# Altium schematic symbol library bspd parts.SchLib: 61 symbols
Pins are listed as number, name and electrical type; pins without a type are passive.

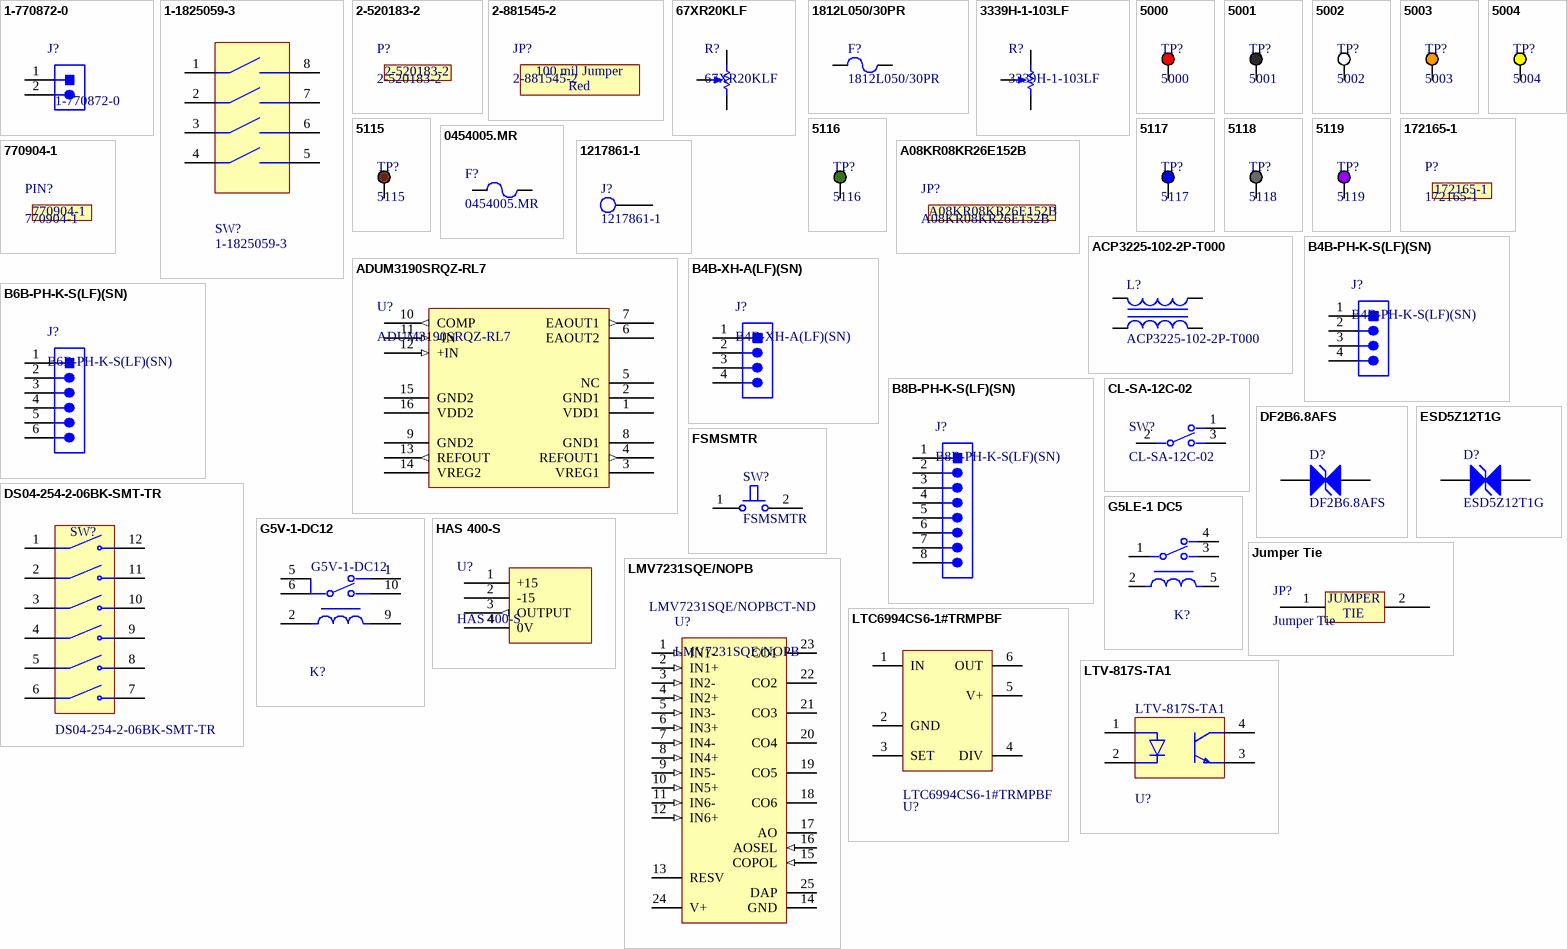
[diagram p0: symbols 1-770872-0 to LTV-817S-TA1]

## 1-770872-0
designator J?
Connector Header Through Hole 2 position 0.163" (4.14mm); Vendor: TE Connectivity; Built_By: EMA_UL_Team; Manufacturer_Part_Number: 1-770872-0; Copyright: Copyright (C) 2018 Accelerated Designs. All rights reserved; RefDes: RefDes; Type: DEV; Value: Value
footprint CON2_1X2_P163_VM
footprint CON2_1X2_P163_VM_ALT
pins: 1, 2

## 1-1825059-3
designator SW?
SWITCH SLIDE DIP SPST 100MA 24V; Manufacturer: TE; helpURL: https://upverter.com/upn/revision/88d716be50ce18fd/; ComponentLink2Description: Datasheet; Temperature: -30°C to +85°C; Package: SMT_SW_7MM5_12MM14; Supplier 2: Mouser; Price: 0.675951318221; Supplier 1: Digi-Key; ComponentLink1URL: https://upverter.com/upn/revision/88d716be50ce18fd/; Supplier Part Number 2: 506-ADF04S04; Supplier Part Number 1: 1-1825059-3-ND; ComponentLink1Description: Upverter; ComponentLink2URL: http://www.te.com/commerce/DocumentDelivery/DDEController?Action=showdoc&DocId=Customer+Drawing%7F1825059%7FA4%7Fpdf%7FEnglish%7FENG_CD_1825059_A4.pdf%7F1-1825059-3; RoHS: TRUE; Mouser Part Number: 506-ADF04S04; Digikey Description: SWITCH SLIDE DIP SPST 100MA 24V; Digikey Part Number: 1-1825059-3-ND; Lead Free: yes; Temperature Range Low: -30°C; Temperature Range High: +85°C; Part Number: 1-1825059-3
footprint TE_1-1825059-3_0
pins: 1, 2, 3, 4, 5, 6, 7, 8

## 2-520183-2
designator P?  (mechanical)
0.250" (6.35mm) Quick Connect Female 18-22 AWG Crimp Connector Fully Insulated; Supplier 1: Digi-Key; Supplier Part Number 1: A27817CT-ND

## 2-881545-2
designator JP?  (mechanical)
2 (1 x 2) Position Shunt Connector Red Open Top, Grip 0.100" (2.54mm) Gold; Supplier 1: Digi-Key; Supplier Part Number 1: 2-881545-2-ND
text: 100 mil Jumper; Red

## 67XR20KLF
designator R?
20 kOhms 0.5W, 1/2W PC Pins Through Hole Trimmer Potentiometer Cermet 20 Turn Side Adjustment; ComponentLink2URL: https://www.ttelectronics.com/TTElectronics/media/ProductFiles/Trimmers/Datasheets/67.pdf; ComponentLink2Description: Datasheet; Supplier 1: Digi-Key; Supplier 2: Digi-Key; Supplier Part Number 1: 987-1096-ND; Supplier Part Number 2: 987-1790-5-ND
footprint 67X
pins: 1 CCW, 2 WIPER, 3 CW

## 1812L050/30PR
designator F?
PTC Resettable Fuse, 0.8 W, 30 V, -40 to 85 degC, 2-Pin SMD, RoHS, Tape and Reel; Manufacturer: Littelfuse-Inc.; Manufacturer 1: Littelfuse; Voltage - Max: 30V; Current - Hold (Ih) (Max): 500mA; Time to Trip: 0.15s; Current - Max: 100A; R Min/Max: 0.150~1.000Ohm; Current - Trip (It): 1A; Package Reference: 1812; Family: PTCResettableFuses; Packaging: Tape&Reel(TR); Package / Case: 1812(4532Metric),Concave; Series: POLY-FUSE®,1812L; Mounting Technology: SurfaceMount; Datasheet Version: 02/2016; Datasheet URL: http://www.littelfuse.com/~/media/electronics/datasheets/resettable_ptcs/littelfuse_ptc_1812l_datasheet.pdf.pdf; Manufacturer URL: http://www.littelfuse.com/; Category: CircuitProtection; Package Description: 2-Pin Surface Mount Device, Body 4.55 x 3.24 mm; Manufacturer Part Number 1: 1812L050/30PR
footprint LFUS-1812L05030PR (SMD, 2-Leads, Body 4.55x3.24mm)
pins: 1, 2

## 3339H-1-103LF
designator R?
10 kOhms 0.5W, 1/2W PC Pins Through Hole Trimmer Potentiometer Cermet 4 Turn Top Adjustment; ComponentLink2URL: https://www.ttelectronics.com/TTElectronics/media/ProductFiles/Trimmers/Datasheets/67.pdf; ComponentLink2Description: Datasheet; Supplier 1: Digi-Key; Supplier Part Number 1: 3339H-103LF-ND
footprint 3339H-1-103LF
pins: 1 CCW, 2 WIPER, 3 CW

## 5000
designator TP?
Test Point, Red, 1-Pin THD, RoHS, Bulk; Manufacturer: KeystoneElectronics; Outside Diameter: 2.54mm; Plating: Silver; Mounting Hole Size: 1mm; Product: TestPoints; Packaging: Bulk; Manufacturer URL: http://www.keyelco.com/; Length: 7.62mm; Datasheet Version: Rev. G, 12/2008; Type: Miniature; Product Category: CircuitBoardHardware-PCB; Material: Nylon; RoHS: True; Contact Material: PhosphorBronze; Datasheet URL: https://ciiva.com/datasheet-click-2917627?src=ciiva&sig=bd195616; Color: Red; Brand: KeystoneElectronics; Supplier 1: Digi-Key; Supplier Part Number 1: 36-5000-ND
footprint KSTN-5000 (Test Point, Through Hole, Dia 2.54mm)
pins: 1

## 5001
designator TP?
Test Point, Black, 1-Pin THD, RoHS, Bulk; Manufacturer: KeystoneElectronics; Outside Diameter: 2.54mm; Plating: Silver; Mounting Hole Size: 1mm; Product: TestPoints; Packaging: Bulk; Manufacturer URL: http://www.keyelco.com/; Length: 7.62mm; Datasheet Version: Rev. G, 12/2008; Type: Miniature; Product Category: CircuitBoardHardware-PCB; Material: Nylon; RoHS: True; Contact Material: PhosphorBronze; Datasheet URL: https://ciiva.com/datasheet-click-2917627?src=ciiva&sig=bd195616; Color: Black; Brand: KeystoneElectronics; Supplier 1: Digi-Key; Supplier Part Number 1: 36-5001-ND
footprint KSTN-5001 (Test Point, Through Hole, Dia 2.54mm)
pins: 1

## 5002
designator TP?
Test Point, White, 1-Pin THD, RoHS, Bulk; Manufacturer: KeystoneElectronics; Outside Diameter: 2.54mm; Plating: Silver; Mounting Hole Size: 1mm; Product: TestPoints; Packaging: Bulk; Manufacturer URL: http://www.keyelco.com/; Length: 7.62mm; Datasheet Version: Rev. G, 12/2008; Type: Miniature; Product Category: CircuitBoardHardware-PCB; Material: Nylon; RoHS: True; Contact Material: PhosphorBronze; Datasheet URL: https://ciiva.com/datasheet-click-2917627?src=ciiva&sig=bd195616; Color: White; Brand: KeystoneElectronics; Supplier 1: Digi-Key; Supplier Part Number 1: 36-5002-ND
footprint KSTN-5002 (Test Point, Through Hole, Dia 2.54mm)
pins: 1

## 5003
designator TP?
Test Point, Orange, 1-Pin THD, RoHS, Bulk; Manufacturer: KeystoneElectronics; Outside Diameter: 2.54mm; Plating: Silver; Mounting Hole Size: 1mm; Product: TestPoints; Packaging: Bulk; Manufacturer URL: http://www.keyelco.com/; Length: 7.62mm; Datasheet Version: Rev. G, 12/2008; Type: Miniature; Product Category: CircuitBoardHardware-PCB; Material: Nylon; RoHS: True; Contact Material: PhosphorBronze; Datasheet URL: https://ciiva.com/datasheet-click-2917627?src=ciiva&sig=bd195616; Color: Orange; Brand: KeystoneElectronics; Supplier 1: Digi-Key; Supplier Part Number 1: 36-5003-ND
footprint KSTN-5003 (Test Point, Through Hole, Dia 2.54mm)
pins: 1

## 5004
designator TP?
Test Point, Yellow, 1-Pin THD, RoHS, Bulk; Manufacturer: KeystoneElectronics; Outside Diameter: 2.54mm; Plating: Silver; Mounting Hole Size: 1mm; Product: TestPoints; Packaging: Bulk; Manufacturer URL: http://www.keyelco.com/; Length: 7.62mm; Datasheet Version: Rev. G, 12/2008; Type: Miniature; Product Category: CircuitBoardHardware-PCB; Material: Nylon; RoHS: True; Contact Material: PhosphorBronze; Datasheet URL: https://ciiva.com/datasheet-click-2917627?src=ciiva&sig=bd195616; Color: Yellow; Brand: KeystoneElectronics; Supplier 1: Digi-Key; Supplier Part Number 1: 36-5004-ND
footprint KSTN-5004 (Test Point, Through Hole, Dia 2.54mm)
pins: 1

## 5115
designator TP?
Test Point, Brown, 1-Pin THD, RoHS, Bulk; Manufacturer: KeystoneElectronics; Outside Diameter: 2.54mm; Plating: Silver; Mounting Hole Size: 1mm; Product: TestPoints; Packaging: Bulk; Manufacturer URL: http://www.keyelco.com/; Length: 7.62mm; Datasheet Version: Rev. G, 12/2008; Type: Miniature; Product Category: CircuitBoardHardware-PCB; Material: Nylon; RoHS: True; Contact Material: PhosphorBronze; Datasheet URL: https://ciiva.com/datasheet-click-2917627?src=ciiva&sig=bd195616; Color: Brown; Brand: KeystoneElectronics; Supplier 1: Digi-Key; Supplier Part Number 1: 36-5115-ND
footprint KSTN-5115 (Footprint not found)
pins: 1

## 5116
designator TP?
Test Point, Green, 1-Pin THD, RoHS, Bulk; Manufacturer: KeystoneElectronics; Outside Diameter: 2.54mm; Plating: Silver; Mounting Hole Size: 1mm; Product: TestPoints; Packaging: Bulk; Manufacturer URL: http://www.keyelco.com/; Length: 7.62mm; Datasheet Version: Rev. G, 12/2008; Type: Miniature; Product Category: CircuitBoardHardware-PCB; Material: Nylon; RoHS: True; Contact Material: PhosphorBronze; Datasheet URL: https://ciiva.com/datasheet-click-2917627?src=ciiva&sig=bd195616; Color: Green; Brand: KeystoneElectronics; Supplier 1: Digi-Key; Supplier Part Number 1: 36-5116-ND
footprint KSTN-5116 (Test Point, Through Hole, Dia 2.54mm)
pins: 1

## 5117
designator TP?
Test Point, Blue, 1-Pin THD, RoHS, Bulk; Manufacturer: KeystoneElectronics; Outside Diameter: 2.54mm; Plating: Silver; Mounting Hole Size: 1mm; Product: TestPoints; Packaging: Bulk; Manufacturer URL: http://www.keyelco.com/; Length: 7.62mm; Datasheet Version: Rev. G, 12/2008; Type: Miniature; Product Category: CircuitBoardHardware-PCB; Material: Nylon; RoHS: True; Contact Material: PhosphorBronze; Datasheet URL: https://ciiva.com/datasheet-click-2917627?src=ciiva&sig=bd195616; Color: Blue; Brand: KeystoneElectronics; Supplier 1: Digi-Key; Supplier Part Number 1: 36-5117-ND
footprint KSTN-5117 (Test Point, Through Hole, Dia 2.54mm)
pins: 1

## 5118
designator TP?
Test Point, Grey, 1-Pin THD, RoHS, Bulk; Manufacturer: KeystoneElectronics; Outside Diameter: 2.54mm; Plating: Silver; Mounting Hole Size: 1mm; Product: TestPoints; Packaging: Bulk; Manufacturer URL: http://www.keyelco.com/; Length: 7.62mm; Datasheet Version: Rev. G, 12/2008; Type: Miniature; Product Category: CircuitBoardHardware-PCB; Material: Nylon; RoHS: True; Contact Material: PhosphorBronze; Datasheet URL: https://ciiva.com/datasheet-click-2917627?src=ciiva&sig=bd195616; Color: Grey; Brand: KeystoneElectronics; Supplier 1: Digi-Key; Supplier Part Number 1: 36-5118-ND
footprint KSTN-5118 (Test Point, Through Hole, Dia 2.54mm)
pins: 1

## 5119
designator TP?
Test Point, Purple, 1-Pin THD, RoHS, Bulk; Manufacturer: KeystoneElectronics; Outside Diameter: 2.54mm; Plating: Silver; Mounting Hole Size: 1mm; Product: TestPoints; Packaging: Bulk; Manufacturer URL: http://www.keyelco.com/; Length: 7.62mm; Datasheet Version: Rev. G, 12/2008; Type: Miniature; Product Category: CircuitBoardHardware-PCB; Material: Nylon; RoHS: True; Contact Material: PhosphorBronze; Datasheet URL: https://ciiva.com/datasheet-click-2917627?src=ciiva&sig=bd195616; Color: Purple; Brand: KeystoneElectronics; Supplier 1: Digi-Key; Supplier Part Number 1: 36-5119-ND
footprint KSTN-5119 (Test Point, Through Hole, Dia 2.54mm)
pins: 1

## 172165-1
designator P?  (mechanical)
2 Position Rectangular Housing Connector Plug Natural 0.163" (4.14mm); Supplier 1: Digi-Key; Supplier Part Number 1: A25587-ND

## 0454005.MR
designator F?
5A 125V AC 125V DC Fuse Board Mount (Cartridge Style Excluded) Surface Mount 2-SMD, Square End Block; Vendor: Littelfuse Inc; Built_By: EMA_UL_Team; Type: DEV; Manufacturer_Part_Number: 0454005.MR; Copyright: Copyright (C) 2018 Accelerated Designs. All rights reserved; RefDes: RefDes; Value: Value; Supplier 1: Digi-Key; Supplier Part Number 1: F3147CT-ND
footprint lf0454Series
pins: 1, 2

## 770904-1
designator PIN?  (mechanical)
Socket Contact  Crimp 18-22 AWG Stamped; Supplier 1: Digi-Key; Supplier Part Number 1: A25684CT-ND

## 1217861-1
designator J?
CONN TAB .250 STR QC TIN PCB; Gender: Male; Hole Diameter: 0.055inch; Insulation: Non-Insulated; Tab Length: 0.352inch; Tab Thickness: 0.032inch; Tab Width: 0.25inch; PCB Thickness: 0.062inch; Body Material: Brass; Insulated Wire Support: Yes; Contact Material: Brass; Contact Plating: Tin; ELV: Compliant; Length: 0.552inch; Material: Brass; Mount: Through Hole; Package Quantity: 2000; Packaging: Tape and Reel; Termination: Tab; Mating Tab Width: 0.25inch; Body Plating: Tin; Depth: 7.92mm; Plating: Tin; REACH SVHC: Unknown; Terminal Material: Brass; Lead Free: Lead Free; Supplier 1: Digi-Key; Supplier Part Number 1: A100452CT-ND
footprint te-1217861-1 (Footprint not found)
pins: 1a, 1b, 1c

## A08KR08KR26E152B
designator JP?  (mechanical)
8 Position Cable Assembly Rectangular Socket to Socket 0.500' (152.40mm, 6.00"); Supplier 1: Digi-Key; Supplier Part Number 1: 455-3153-ND

## ACP3225-102-2P-T000
designator L?
Common Mode Filter, 1000 Ohm Impedance, 1.2 A, 60 V, -40 to 85 degC, 4-Pin SMD, RoHS, Tape and Reel; Manufacturer: TDK; Online Catalog: ACPSeries; Other Names: 445-8637-6; Current: 1.5A; Featured Product: ACP3225SeriesFilter; Number of Lines: 2; Filter Type: PowerLine; Impedance: 1kOhm; DC Resistance (DCR): 50mOhm; Manufacturer URL: http://www.tdk.com/; Package Description: 4-Pin Surface Mount Device, Body 3.2 x 2.5 mm, Pitch 1.15 mm; Datasheet Version: Rev. 8, 07/2011; Package / Case: 1210(3225Metric),4Lead; Packaging: Digi-Reel; Inductance: -; Height (Max): 0.079"(2.00mm); Operating Temperature: -40degC~85degC; Size / Dimension: 0.126"Lx0.098"W(3.20mmx2.50mm); Datasheet URL: https://datasheet.ciiva.com/30106/acp3225-series-30106482.pdf; Standard Package: 1; Series: ACP; Mounting Type: SurfaceMount; Package Reference: ACP3225-102-2P-T000-4; Family: CommonModeChokes; Category: Filters; Manufacturer 1: TDK; Manufacturer Part Number 1: ACP3225-102-2P-T000
footprint TDK-ACP3225-102-2P-T000-4_V (SMD, 4-Leads, Body 3.4x2.7mm)
pins: 1, 2, 3, 4

## ADUM3190SRQZ-RL7
designator U?
Isolator, Error Amplifier IC Shunt Regulators, Linear Power Supplies, Inverters, UPS 16-QSOP; Supplier 1: Digi-Key; Supplier Part Number 1: ADUM3190SRQZ-RL7CT-ND
footprint RQ-16 (SOP, 16-Leads, Body 4.90x3.91mm, Pitch 0.64mm, IPC Medium Density)
pins: 1 VDD1 (power), 2 GND1 (power), 3 VREG1 (power), 4 REFOUT1 (out), 5 NC "Connect to GND", 6 EAOUT2 (oc) "OUT Open Drain", 7 EAOUT1 (out), 8 GND1 (power), 9 GND2 (power), 10 COMP (out), 11 -IN (in), 12 +IN (in), 13 REFOUT (out), 14 VREG2 (power), 15 GND2 (power), 16 VDD2 (power)

## B4B-PH-K-S(LF)(SN)
designator J?
Male Header, Pitch 2 mm, 1 x 4 Position, Height 6 mm, Tail Length 3.4 mm, -25 to 85 degC, RoHS, Bulk; Manufacturer: JST; No of Positions: 4; Style/Orientation: StraightHeader/Plug; Pitch: 2mm; Datasheet URL: http://datasheet.octopart.com/B4B-PH-K-S%28LF%29%28SN%29-JST-datasheet-10558886.pdf; Type: ShroudedHeader; Manufacturer URL: http://www.jst.com/home2.html; Termination: Crimp; Datasheet Version: Apr-09; Supplier 1: Newark; Supplier Part Number 1: 37K9958
footprint B4B-PH-K
pins: 1, 2, 3, 4

## B4B-XH-A(LF)(SN)
designator J?
Connector Header Through Hole 4 position 0.098" (2.50mm); Manufacturer: JST; No of Positions: 4; Style/Orientation: StraightHeader/Plug; Type: ShroudedHeader; Manufacturer URL: http://www.jst.com/home2.html; Termination: Crimp; Datasheet Version: Apr-09; Supplier 1: Newark; Supplier Part Number 1: 73M9436
footprint B4B-XH-A(LF)(SN)
pins: 1, 2, 3, 4

## B6B-PH-K-S(LF)(SN)
designator J?
Connector Header Through Hole 6 position 0.079" (2.00mm); Supplier 1: Newark; Supplier Part Number 1: 37K9974
footprint B6B-PH-K
pins: 1, 2, 3, 4, 5, 6

## B8B-PH-K-S(LF)(SN)
designator J?
Connector Header Through Hole 8 position 0.079" (2.00mm); Supplier 1: Digi-Key; Supplier Part Number 1: 455-1710-ND
footprint B8B-PH-K
pins: 1, 2, 3, 4, 5, 6, 7, 8

## CL-SA-12C-02
designator SW?
Slide Switch SPDT Through Hole; Supplier 1: Digi-Key; Supplier Part Number 1: 563-1388-ND
footprint CL-SA-12C-02
pins: 1, 2, 3

## DF2B6.8AFS
designator D?
7V (Typ) Clamp 1A (8/20µs) Ipp Tvs Diode Surface Mount fSC (SOD-923); Supplier 1: Digi-Key; Supplier Part Number 1: DF2B6.8AFSL3MCT-ND
footprint SOD923 (SOD923 - 1-AH1A)
pins: 1 A1, 2 A2

## DS04-254-2-06BK-SMT-TR
designator SW?
Dip Switch SPST 6 Position Surface Mount Slide (Standard) Actuator 25mA 24VDC; Value: *; Supplier 1: Mouser; Supplier 2: Mouser; Supplier Part Number 2: 490-DS04254206BK-STR; Supplier Part Number 1: 490-DS04254206BK-STR
footprint *SW_DS04-254-2-06BK-SMT-TR
pins: 1 COM1, 2 COM2, 3 COM3, 4 COM4, 5 COM5, 6 COM6, 7 NO6, 8 NO5, 9 NO4, 10 NO3, 11 NO2, 12 NO1

## ESD5Z12T1G
designator D?
Transient Voltage Suppressor, Micro-Packaged Diode for ESD Protection, 2-Pin SOD-523, Pb-Free, Tape and Reel; Manufacturer: On Semiconductor; VRWM Max (V): 12; Number of Lines: 1; V(BR) Min (V): 14.1; Direction: Unidirectional; IR Max (uA): 0.01; PPK Max (W): 240; ComponentLink1URL: http://www.onsemi.com/; PartNumber: ESD5Z12T1G; RoHS: Pb-Free; ComponentLink3Description: Package Specification; PackageVersion: Rev. E, 09/2010; PackageReference: SOD-523-2-502-01; PackageDescription: 2-Pin SOD, Body 1.2 x 0.8 mm; ComponentLink2Description: Datasheet; ComponentLink1Description: Manufacturer URL; Mounting Technology: Surface Mount; DatasheetVersion: Rev. 10; ComponentLink3URL: http://www.onsemi.com/pub_link/Collateral/502-01.PDF; ComponentLink2URL: http://www.onsemi.cn/pub_link/Collateral/ESD5Z2.5T1-D.PDF; Packing: Tape and Reel; Manufacturer 1: ON Semiconductor; Manufacturer Part Number 1: ESD5Z12T1G; Supplier 1: Digi-Key; Supplier Part Number 1: ESD5Z12T1GOSCT-ND
footprint ONSC-SOD-523-2-502-01_V (SOD, 2-Leads, Body 1.2x0.8mm)
pins: 1 A1, 2 A2

## FSMSMTR
designator SW?
FSMSM Push Button Switch, 50 mA, -35 to 85 degC, 2-Pin SMD, RoHS, Tape and Reel; Manufacturer: TE Connectivity; Voltage Rating (DC): 24V; Electrical Life: 20000Cycles; Operating Force: 180gf; Switch Travel: 0.25mm; Contact Current Rating: 50mA; Case\/Package: SMD/SMT; Actuator Length: 1.07mm; Throw Configuration: SPST; Actuator Material: Polyamide; Contact Resistance: 100mOhm; Illumination Type: Illuminated; Max Voltage Rating (DC): 12V; Manufacturer URL: http://www.te.com/; Lead Free: LeadFree; Packaging: TapeandReel; Min Operating Temperature: -35degC; Mechanical Life: 20000Cycles; Mount: SurfaceMount; REACH SVHC: Unknown; Package Quantity: 1800; Package Reference: FSMSMTR; RoHSCompliant: true; Max Operating Temperature: 85degC; Orientation: Straight; ELV: Compliant; Datasheet URL: http://www.te.com/commerce/DocumentDelivery/DDEController?Action=showdoc&DocId=Customer+Drawing%7F1437566-3%7FC2%7Fpdf%7FEnglish%7FENG_CD_1437566-3_C2_1437566_3_1_c.dwg.pdf%7F1437566-4; Package Description: 2-Pin Surface Mount Device, Body 6 x 3.5 mm, Pitch 9.19 mm; Current Rating: 50mA; Contact Plating: Silver; Termination: GullWing; Datasheet Version: Rev. C2, 08/2014; Contact Material: Brass; Mounting Technology: SurfaceMount; Manufacturer 1: TE Connectivity; Manufacturer Part Number 1: FSMSMTR; Supplier 1: Digi-Key; Supplier Part Number 1: 450-1758-1-ND
footprint TECO-FSMSMTR_V (SMD, 2-Leads, Body 6x3.5mm, Pitch 9.19mm)
pins: 1, 2

## G5LE-1 DC5
designator K?, comment Relay_Omron_Electronics_Inc._G5LE-1_DC5_eec  (value not drawn)
General Purpose Relay SPDT (1 Form C) 5VDC Coil Through Hole; Part Number: G5LE-1 DC5; Manufacturer: Omron Electronics Inc.; Voltage: 30V; coil_voltage: 5V; coil_resistance: 63Ω; Operate Time: 10ms; Release Time: 5ms; Symbol 0 0: SPDT Relay; Num Pins: 5; contact_current_rating: 10A; helpURL: https://upverter.com/upn/revision/737368c9962922c8/; ComponentLink2Description: Datasheet; Temperature: -40°C to +85°C; Package: PTH_RELAY_21MM6_15MM6; Supplier 2: Mouser; Supplier 1: Digi-Key; ComponentLink1URL: https://upverter.com/upn/revision/737368c9962922c8/; Supplier Part Number 2: 653-G5LE-1-DC5; Supplier Part Number 1: Z1014-ND; ComponentLink1Description: Upverter; ComponentLink2URL: https://www.components.omron.com/components/web/PDFLIB.nsf/0/0293ACA6B03161CD86257538007424DB/$file/G5LE_0813.pdf; RoHS: TRUE; Mouser Part Number: 653-G5LE-1-DC5; Temperature Range High: +85°C; Octopart Part Number: 11883359022; Digikey Description: RELAY GEN PURPOSE SPDT 10A 5V; Digikey Part Number: Z1014-ND; Type: integrated circuit; Lead Free: yes; Temperature Range Low: -40°C; contacts_type: SPDT
footprint Omron_Electronics_Inc._G5LE-1_DC5_0
pins: 1, 2, 3, 4, 5

## G5V-1-DC12
designator K?
General Purpose Relay SPDT (1 Form C) Through Hole; Manufacturer: Omron; Coil Current: 12.5mA; Coil Power: 150mW; Coil Resistance: 960Ω; Coil Type: Non-Latching; Current Rating: 2A; Number Of Contacts: 1; Standoff Height: 0.5mm; Switching Current: 1A; Verification Version: 0.0.0.1; Datasheet Path: datasheets/Relay_Omron_G5V-1-DC12_eec.pdf; Ambient Temperature Range High: +70°C; Ambient Temperature Range Low: -40°C; Automotive: No; ComponentLink1Description: Upverter; ComponentLink1URL: https://upverter.com/upn/revision/60c0f3c9560d0c93/; ComponentLink2Description: Datasheet; ComponentLink2URL: https://omronfs.omron.com/en_US/ecb/products/pdf/en-g5v_1.pdf; Digikey Description: RELAY GEN PURPOSE SPDT 1A 125V; Digikey Part Number: Z774-ND; Height: 10mm; Lead Free: Yes; Mouser Description: Relay; E-Mech; Low Signal; SPDT; Cur-Rtg 1A; Ctrl-V 12DC; Vol-Rtg 125/60AC/DC; PCB Mnt; Mouser Part Number: 653-G5V-1-DC12; Package: G5V-1-DC12; Part Number: G5V-1-DC12; Price: 1.48127132607; RoHS: TRUE; Supplier 1: Digi-Key; Supplier 2: Mouser; Supplier Part Number 1: Z774-ND; Supplier Part Number 2: 653-G5V-1-DC12; Temperature: -40°C to +70°C; Temperature Range High: +70°C; Temperature Range Low: -40°C; Throw Configuration: SPDT; helpURL: https://upverter.com/upn/revision/60c0f3c9560d0c93/
footprint Omron_G5V-1-DC12_MFG
pins: 1, 2, 5, 6, 9, 10

## HAS 400-S
designator U?
Sensor Current Hall 400A Ac/dc; Supplier 1: Digi-Key; Supplier Part Number 1: 398-1053-ND
footprint HAS 400-S
pins: 1 +15 (power), 2 -15 (power), 3 OUTPUT (out), 4 0V (power)

## Jumper Tie
designator JP?
Jumper Net Tie (BOM); Supplier 1: Digi-Key; Supplier 2: Digi-Key; Supplier 3: Digi-Key; Supplier 4: Digi-Key; Supplier Part Number 1: SAM9019-ND; Supplier Part Number 2: ED1332-ND; Supplier Part Number 3: 36-5025-ND; Supplier Part Number 4: 923345-01-ND
footprint 100mil_jump
pins: 1, 2
text: JUMPER; TIE

## LMV7231SQE/NOPB
designator U?  Supplier Part Number 1: LMV7231SQE/NOPBCT-ND
Hex Window Comparator with 1.5% Precision and 400mV Reference, 24-pin LLP, 250 Reel; Manufacturer: Texas Instruments; PowerWise: N; PackageTopMarking: NS*UZXYTT*L7231SQ; Code_JEDEC: MO-220-WGGD-6; PinCount: 24; ComponentLink1Description: Datasheet URL; PackageDescription: LLP, Plastic, Quad, 4 x 4 x 0.8mm Body, 24 Lead, 0.5mm Pitch, No Pullback; PackageReference: RTW0024A; CompType: Comparator; RoHS: Y; ComponentLink1URL: http://www.ti.com/general/docs/lit/getliterature.tsp?genericPartNumber=LMV7231&fileType=pdf; Supplier 1: Digi-Key
footprint RTW0024A_V (QFN, 24-Leads, Body 4x4mm, Pitch 0.5mm, Thermal Pad 2.6x2.6mm, TI Recommended)
pins: 1 IN1- (in) "Negative input for window comparator 1", 2 IN1+ (in) "Positive input for window comparator 1", 3 IN2- (in) "Negative input for window comparator 2", 4 IN2+ (in) "Positive input for window comparator 2", 5 IN3- (in) "Negative input for window comparator 3", 6 IN3+ (in) "Positive input for window comparator 3", 7 IN4- (in) "Negative input for window comparator 4", 8 IN4+ (in) "Positive input for window comparator 4", 9 IN5- (in) "Negative input for window comparator 5", 10 IN5+ (in) "Positive input for window comparator 5", 11 IN6- (in) "Negative input for window comparator 6", 12 IN6+ (in) "Positive input for window comparator 6", 13 RESV "Connect to GND", 14 GND (power) "Ground reference pin for the power supply voltage", 15 COPOL (in) "The state of this pin determines whether the CO1-CO6 pins are active HIGH or LOW.", 16 AOSEL (in) "The state of this pin determines whether the AO pin is active on an over-voltage or under-voltage event.", 17 AO (oc) "This output is the ANDED combination of either the over- voltage comparator outputs or the under-voltage comparator outputs.", 18 CO6 (oc) "Window comparator 6 NMOS open-drain output", 19 CO5 (oc) "Window comparator 5 NMOS open-drain output", 20 CO4 (oc) "Window comparator 4 NMOS open-drain output", 21 CO3 (oc) "Window comparator 3 NMOS open-drain output", 22 CO2 (oc) "Window comparator 2 NMOS open-drain output", 23 CO1 (oc) "Window comparator 1 NMOS open-drain output", 24 V+ (power) "Power supply pin", 25 DAP (power) "Die Attach Paddle (DAP) connect to GND"

## LTC6994CS6-1#TRMPBF
designator U?  (value not drawn)
IC DELAY LINE 8TAP PROG TSOT23-6; Manufacturer: Linear Technologies; Capacitance: SKIP; Library Path1: parts/IC_Linear_Technologies_LTC6994CS6-1#TRMPBF_eec.SchLib; Part Number: LTC6994CS6-1#TRMPBF; Datasheet Path: datasheets/IC_Linear_Technologies_LTC6994CS6-1#TRMPBF_eec.pdf; ComponentLink1Description: Upverter; ComponentLink1URL: https://upverter.com/upn/revision/f62c3d807553aaaa/; ComponentLink2Description: Datasheet; ComponentLink2URL: http://cds.linear.com/docs/en/datasheet/699412fb.pdf; Datasheet Path1: datasheets/IC_Linear_Technologies_LTC6994CS6-1#TRMPBF_eec.pdf; Digikey Description: IC DELAY LINE 8TAP PROG TSOT23-6; Digikey Part Number: LTC6994CS6-1#TRMPBFCT-ND; Inductance: SKIP; Lead Free: yes; Library Ref1: LTC6994CS6-1#TRMPBF; Mouser Part Number: 584-C6994CS6-1TRMPBF; Package: TSOT23-6; Price: 2.01987952065; Resistance: SKIP; RoHS: TRUE; Supplier 1: Digi-Key; Supplier 2: Mouser; Supplier Part Number 1: LTC6994CS6-1#TRMPBFCT-ND; Supplier Part Number 2: 584-C6994CS6-1TRMPBF; Temperature: 0°C to +70°C; Temperature Range High: +70°C; Temperature Range Low: 0°C; helpURL: https://upverter.com/upn/revision/f62c3d807553aaaa/
footprint Linear_Technologies_LTC6994CS6-1#TRMPBF_0
pins: 1 IN, 2 GND, 3 SET, 4 DIV, 5 V+, 6 OUT

## LTV-817S-TA1
designator U?
LTV Series Single Channel 35 V 5000 Vrms Transistor Output Optocoupler SMT-DIP-4; Supplier 1: Digi-Key; Supplier Part Number 1: 160-1893-1-ND
footprint Lite-On_LTV-817S-TA1_0
pins: 1 A, 2 C, 3 E, 4 C

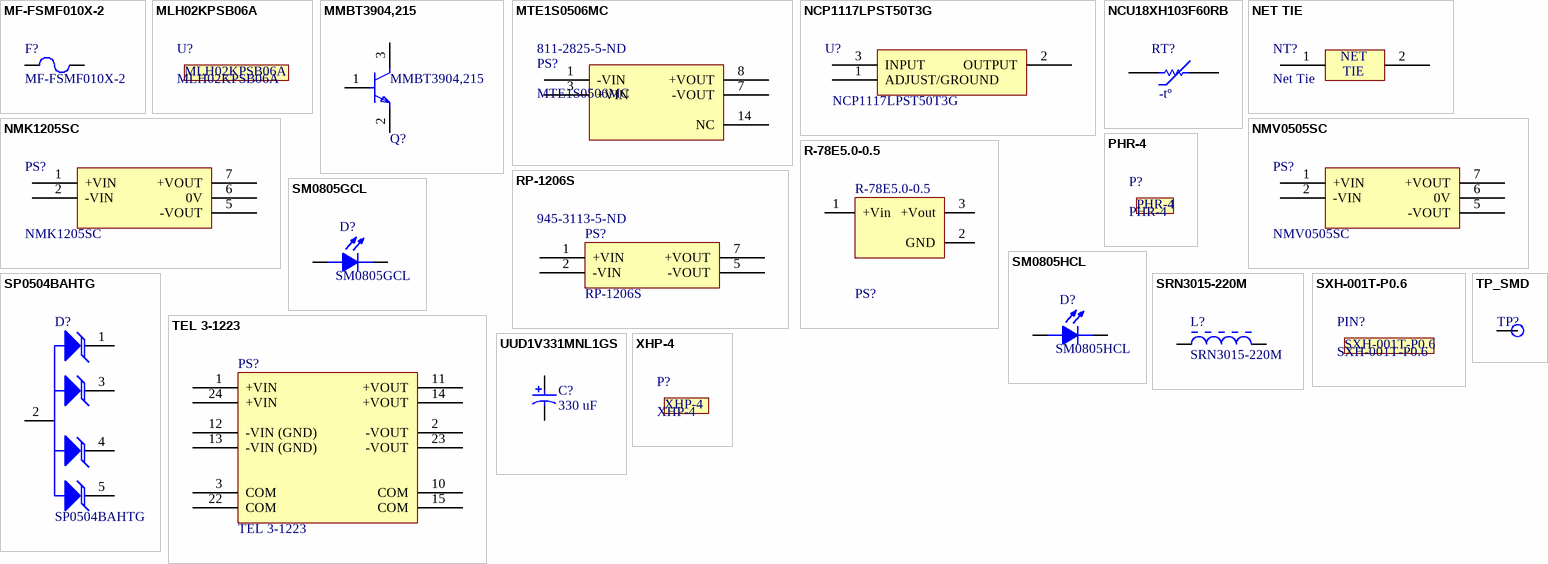
[diagram p1: symbols MF-FSMF010X-2 to XHP-4]

## MF-FSMF010X-2
designator F?
Polymeric PTC Resettable Fuse 15V 100mA Ih Surface Mount 0603 (1608 Metric), Concave; Supplier 1: Digi-Key; Supplier Part Number 1: MF-FSMF010X-2CT-ND
footprint MF-FSMF (MF-FSMF Series - PTC Resettable Fuse)
pins: 1, 2

## MLH02KPSB06A
designator U?  (mechanical)
MLH Series Heavy Duty Pressure Transducer, sealed gage, amplified, 0 psi to 2,000 psi, 1/8-27 NPT port style, 0.5 Vdc to 4.5 Vdc from 5 Vdc excitation ratiometric output type, Metri-Pack 150 termination type.; Supplier 1: Digi-Key; Supplier Part Number 1: 480-2534-ND

## MMBT3904,215
designator Q?
MMBT3904 Series 40 V 200 mA 250 mW NPN Switching Transistor - SOT-23; Supplier 1: Digi-Key; Supplier Part Number 1: 1727-4044-1-ND
footprint Nexperia_SOT23_0
pins: 1 B, 2 E, 3 C

## MTE1S0506MC
designator PS?  Supplier Part Number 1: 811-2825-5-ND
Isolated Module DC DC Converter 1 Output 6V    167mA 4.5V - 5.5V Input; Supplier 1: Digi-Key
footprint MTE1
pins: 1 -VIN (power), 3 +VIN (power), 7 -VOUT (power), 8 +VOUT (power), 14 NC (power)

## NCP1117LPST50T3G
designator U?
NCP1117LPST50T3G; LDO Voltage Regulator; 1.1A; 5V; -0.3 to 18 Vin; 3+Tab-Pin SOT-223; Vendor: ON Semiconductor; Manufacturer_Part_Number: NCP1117LPST50T3G; Copyright: Copyright (C) 2016 Accelerated Designs. All rights reserved; RefDes: RefDes; Type: DEV; Value: Value
footprint SOT223-3
pins: 1 ADJUST/GROUND (power), 2 OUTPUT (power), 3 INPUT (power)

## NCU18XH103F60RB
designator RT?  Type: -tº  (hidden comment: NCU18XH103F60RB)
THERMISTOR NTC 10KOHM 3380K 0603; Resistance in Ohms @ 25°C: 10k; Resistance Tolerance: ±1%; B25/85: 3434K; B25/100: 3455K; Power - Max: 100mW; Supplier 1: Digi-Key; Supplier Part Number 1: 490-16279-1-ND; B Value Tolerance: ±1%; B25/50: 3380K; Operating Temperature: 40°C ~ 125°C; ComponentLink1Description: Datasheet; ComponentLink1URL: https://www.murata.com/~/media/webrenewal/support/library/catalog/products/thermistor/r03e.ashx?la=en-us
footprint NCU18_RESC1608X10N (Chip Resistor, 2-Leads, Body 1.60x0.80mm, IPC Medium Density - Murata NCU18)
pins: 1, 2

## NET TIE
designator NT?, comment Net Tie  (net tie, no BOM)
Net Tie (No BOM)
footprint 10MIL_TIE
footprint 20MIL_TIE
footprint 20MIL EXPOSED TIE
pins: 1, 2
text: NET; TIE

## NMK1205SC
designator PS?
Isolated Module DC DC Converter 2 Output 5V -5V   200mA, 200mA 10.8V - 13.2V Input; Supplier 1: Digi-Key; Supplier Part Number 1: 811-3393-5-ND
footprint NMV0505SC
pins: 1 +VIN (power), 2 -VIN (power), 5 -VOUT (power), 6 0V (power), 7 +VOUT (power)

## NMV0505SC
designator PS?
Isolated Module DC DC Converter 2 Output 5V -5V   100mA, 100mA 4.5V - 5.5V Input; Supplier 1: Digi-Key; Supplier Part Number 1: 811-1588-5-ND
footprint NMV0505SC
pins: 1 +VIN (power), 2 -VIN (power), 5 -VOUT (power), 6 0V (power), 7 +VOUT (power)

## PHR-4
designator P?  (mechanical)
4 Position Rectangular Housing Connector Receptacle Natural 0.079" (2.00mm); Supplier 1: Digi-Key; Supplier Part Number 1: 455-1164-ND

## R-78E5.0-0.5
designator PS?
IC Linear Regulator Replacement DC DC Converter 1 Output 5V 500mA 7V - 28V Input; Manufacturer: RECOM; Efficiency: 82-92% typ.; Input Voltage Range: 7V ~ 28V; Library Path1: parts/IC_RECOM_R-78E5.0-0.5_eec.SchLib; Max# Capacitive Load: 220µF; Part Number: R-78E5.0-0.5; Datasheet Path: datasheets/IC_RECOM_R-78E5.0-0.5_eec.pdf; ComponentLink1Description: Upverter; ComponentLink1URL: https://upverter.com/upn/revision/5351fc0564b0b61a/; ComponentLink2Description: Datasheet; ComponentLink2URL: https://www.recom-power.com/pdf/Innoline/R-78Exx-0.5.pdf; Datasheet Path1: datasheets/IC_RECOM_R-78E5.0-0.5_eec.pdf; Digikey Description: IC Linear Regulator Replacement DC DC Converter 1 Output 5V 500mA 7V - 28V Input; Digikey Part Number: 945-1648-5-ND; Lead Free: yes; Library Ref1: R-78E5.0-0.5; Mouser Part Number: 919-R-78E5.0-0.5; Output Current: 500mA; Output Voltage: 5V; Package: SIP-3; Price: 2.52764935796; RoHS: TRUE; Supplier 1: Digi-Key; Supplier 2: Mouser; Supplier Part Number 1: 945-1648-5-ND; Supplier Part Number 2: 919-R-78E5.0-0.5; Temperature: -40°C to +85°C; Temperature Range High: +85°C; Temperature Range Low: -40°C; helpURL: https://upverter.com/upn/revision/5351fc0564b0b61a/
footprint RECOM_R-78E5.0-0.5_0
pins: 1 +Vin (power), 2 GND (power), 3 +Vout (power)

## RP-1206S
designator PS?  Supplier Part Number 1: 945-3113-5-ND
1W DC/DC-Converter 'ECONOLINE' SIP7 5.2kV unreg; MF: Recom Power; Digi-Key_Purchase_URL: https://www.digikey.com/product-detail/en/recom-power/RP-1206S/945-3113-5-ND/7603366?utm_source=snapeda&utm_medium=aggregator&utm_campaign=symbol; SnapEDA_Link: https://www.snapeda.com/parts/RP-1206S/Recom%20Power/view-part/2760131/?ref=snap; Package: SIP-7 Recom Power; Digi-Key_Part_Number: 945-3113-5-ND; MP: RP-1206S; Value: *; Supplier 1: Digi-Key
footprint CONV_RP-1206S
pins: 1 +VIN (power), 2 -VIN (power), 5 -VOUT (power), 7 +VOUT (power)

## SM0805GCL
designator D?
Green 574nm LED Indication - Discrete 1.9V 0805 (2012 Metric); Supplier 1: Digi-Key; Supplier Part Number 1: 492-2525-1-ND
footprint LEDC2012X135N_SM0805GCL(Primary)
pins: A, C

## SM0805HCL
designator D?
Red 631nm LED Indication - Discrete 1.9V 0805 (2012 Metric); Supplier 1: Digi-Key; Supplier Part Number 1: 492-2281-1-ND
footprint LEDC2012X135N_SM0805HCL(Primary)
pins: A, C

## SP0504BAHTG
designator D?
8.5V Clamp  Ipp Tvs Diode Surface Mount SOT-23-5 5.5V; Manufacturer: Littelfuse; Capacitance: 30pF; Diode Type: Avalanche; Direction: Unidirectional; Element Configuration: Common Anode; ESD Protection: Yes; Leakage Current: 100nA; Max Power Dissipation: 225mW; Number of Channels: 4; Polarity: Bidirectional,Unidirectional; Power Line Protection: No; Voltage Rating (DC): 5V; Breakdown Voltage: 5.5V; Case/Package: SOT-23; Category: TVS Diodes; Clamping Voltage: 8.5V; Composition: Zener; Depth: 1.75mm; Height: 1.3mm; Lead Free: Lead Free; Length: 3.05mm; Manufacturer Part Number: SP0504BAHTG; Max Operating Temperature: 85°C; Max Reverse Leakage Current: 100nA; Min Operating Temperature: -40°C; Mount: Surface Mount; Number of Elements: 4; Number of Pins: 5; Number of Unidirectional Channels: 4; Packaging: Tape and Reel; Peak Pulse Power: 225mW; Power Dissipation: 225mW; Radiation Hardening: No; REACH SVHC: Unknown; Reverse Standoff Voltage: 5.5V; Termination: SMD/SMT; Width: 1.75mm; Working Voltage: 5.5V; Supplier 1: Digi-Key; Supplier Part Number 1: F3157CT-ND
footprint SOT23127P600-8N (JEDEC MO-178)
pins: 1, 2, 3, 4, 5

## SRN3015-220M
designator L?
Semi-shielded Power Inductor, 22 uH, +/- 20%, 0.6 A, -40 to 125 degC, 3 x 3 x 1.5 mm SMD, RoHS and Halogen Free, Tape and Reel; Manufacturer: Bourns; SRF Min: 28 MHz; Isat: 0.58 A; Resistance to Solder Heat: +260 degC for 10 sec.; Inductance tolerance: +/- 20%; Inductance: 22 uH; Rated current: 0.6 A; DCR Max: 0.622 Ohm; RoHS: TRUE; ComponentLink1Description: Manufacturer URL; ComponentLink3URL: http://www.bourns.com/data/global/pdfs/SRN3015.pdf; PartNumber: SRN3015-220M; DatasheetVersion: Aug-11; Mounting Technology: Surface Mount; ComponentLink3Description: Package Specification; ComponentLink2Description: Datasheet; Operating Temperature: -40 to 125 degC; PackageDescription: 2-Pin SMD, Body 3 x 3 mm, Height 1.5 mm; Packing: Tape and Reel; PackageReference: SRN3015; ComponentLink2URL: http://www.bourns.com/data/global/pdfs/SRN3015.pdf; ComponentLink1URL: http://www.bourns.com/; Manufacturer 1: Bourns; Manufacturer Part Number 1: SRN3015-220M; Supplier 1: Digi-Key; Supplier Part Number 1: SRN3015-220MCT-ND
footprint SRN3015-2_V (SMD, 2-Leads, Body 3x3mm, Height 1.5mm)
pins: 1, 2

## SXH-001T-P0.6
designator PIN?  (mechanical)
Socket Contact Tin 22-28 AWG Crimp Stamped; Supplier 1: Newark; Supplier Part Number 1: 49Y1258

## TEL 3-1223
designator PS?
Isolated Module DC DC Converter 2 Output 15V -15V   100mA, 100mA 9V - 18V Input; Supplier 1: Digi-Key; Supplier Part Number 1: 1951-2538-ND
footprint TEL 3-1223
pins: 1 +VIN (power), 2 -VOUT (power), 3 COM (power), 10 COM (power), 11 +VOUT (power), 12 -VIN (GND) (power), 13 -VIN (GND) (power), 14 +VOUT (power), 15 COM (power), 22 COM (power), 23 -VOUT (power), 24 +VIN (power)

## TP_SMD
designator TP?, comment SMD Test Point  (value not drawn)  (no BOM)
footprint TP_30mil
footprint TP_40mil (Footprint not found)
pins: 1

## UUD1V331MNL1GS
designator C?  Rated Capacitance: 330 uF  (hidden comment: UUD1V331MNL1GS)
Aluminum Electrolytic Capacitor, UD Series, Low Impedance, 330 uF, 35 V, + / - 20%, -55 to 105 degC, Chip Type, 10 x 10 mm D x L, Pb-Free, Reel; Manufacturer: Nichicon; Tolerance Rated Capacitance: -20 to 20%; Packing: Dia382mm Reel; Rated Voltage: 35 V; Rated Ripple Current (at 100kHz): 670 mA; Impedance: 0.09 Ohm; Endurance Time: 5000 h; Mounting Technology: Surface Mount; ComponentLink1Description: Manufacturer URL; PackageReference: CAPAE-D10H10; PartNumber: UUD1V331MNL1GS; ComponentLink2Description: Datasheet; Diameter: 10 mm; PackageDescription: 2-Pin Surface Mount Device, Diameter 10 mm, Height 10 mm, Pitch 8 mm; ComponentLink2URL: http://products.nichicon.co.jp/en/pdf/XJA043/e-ud.pdf; Length: 10 mm; ComponentLink3URL: http://products.nichicon.co.jp/en/pdf/XJA043/e-ud.pdf; DatasheetVersion: 08/2012; ComponentLink3Description: Package Specification; ComponentLink1URL: http://www.nichicon.co.jp/; RoHS: TRUE; Manufacturer 1: Nichicon; Manufacturer Part Number 1: UUD1V331MNL1GS; Supplier 1: Digi-Key; Supplier Part Number 1: 493-2293-1-ND
footprint NIC-CAPA2-10X10_V (Aluminum Electrolytic Capacitor, Diameter 10mm, Height 10.8mm, Pitch 8mm)
pins: 1, 2

## XHP-4
designator P?  (mechanical)
4 Position Rectangular Housing Connector Receptacle Natural 0.098" (2.50mm); Supplier 1: Digi-Key; Supplier Part Number 1: 455-2267-ND